# EAGLE library part CON_PROGRAM_COMM (library Atmel_utils)
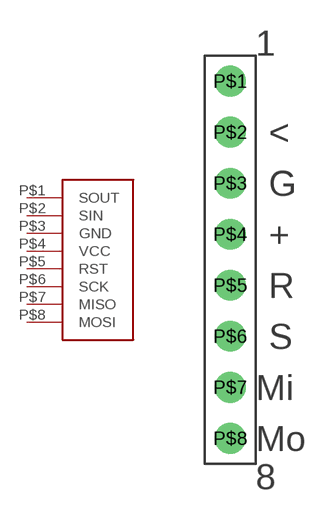
[diagram p0: symbol with the pads of CON_HEADER_8; footprint CON_HEADER_8]

Designator prefix -

## CON_PROGRAM_COMM (PLACE_PART: YES)  [CON_HEADER_8]
P$1  SOUT
P$2  SIN
P$3  GND
P$4  VCC
P$5  RST
P$6  SCK
P$7  MISO
P$8  MOSI

## Footprint CON_HEADER_8 (pad centres in mm)
drill 1.016: P$1 -2.54,7.62; P$2 -2.54,5.08; P$3 -2.54,2.54; P$4 -2.54,0; P$5 -2.54,-2.54; P$6 -2.54,-5.08; P$7 -2.54,-7.62; P$8 -2.54,-10.16